# Altium footprint library Leaded - SOT - SOT523.PcbLib: 1 footprints
Each footprint in its own frame and in the unit in brackets; x right, y up, seen from the top. Pads: shape width x height; smd on the part's side, far side on the other; paste and mask are expansions set on the pad; w line width, h text height; cw(c..) or ccw(c..) is an arc to the next point about the centre after c.
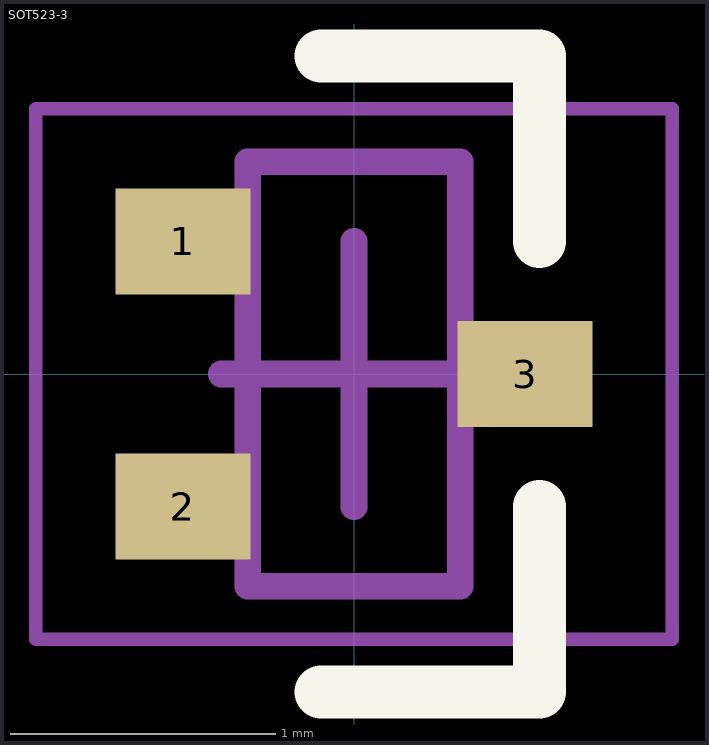
[diagram p0: the footprint, top view; thin cyan lines are the x and y axes]

## SOT523-3 [mm]
pads (3):
  rect 0.51x0.4 smd: 1(-0.645,0.5) 2(-0.645,-0.5) 3(0.645,0)
Top Overlay:
  lines w0.2: -0.125,-1.2 0.7,-1.2 0.7,-0.5 ; -0.125,1.2 0.7,1.2 0.7,0.5
Top Assembly:
  lines w0.05: -0.4,-0.61 -0.8,-0.61 -0.8,-0.39 -0.4,-0.39 ; -0.4,0.39 -0.8,0.39 -0.8,0.61 -0.4,0.61 ; 0.4,-0.11 0.8,-0.11 0.8,0.11 0.4,0.11
  lines w0.1: -0.4,-0.8 0.4,-0.8 0.4,0.8 -0.4,0.8 -0.4,-0.8
Top Courtyard:
  lines w0.05: -1.2,-1 -1.2,1 1.2,1 1.2,-1 -1.2,-1
Top Designator:
  text ".Designator" at -3.75,1.925 h0.76
Top Component Center:
  lines w0.1: -0.5,0 0.5,0 ; 0,-0.5 0,0.5
3D body "SOT-523-STP.stp": height 0.8, standoff 0, extent -0.796,-0.788 0.804,0.787